# Altium schematic symbol library SFM-110-02-L-D-A-P-TR.SchLib: 1 symbol
Pins are listed as number, name and electrical type; pins without a type are passive.

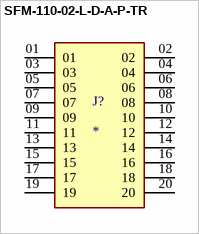
[diagram p0: symbol SFM-110-02-L-D-A-P-TR]

## SFM-110-02-L-D-A-P-TR
designator J?
20 Position Receptacle Connector 0.050 (1.27mm) Surface Mount Gold; MF: Samtec; MP: SFM-110-02-L-D-A-P-TR; Check_prices: https://www.snapeda.com/parts/SFM-110-02-L-D-A-P-TR/Samtec+Inc./view-part/?ref=eda; Availability: In Stock; Price: None; SnapEDA_Link: https://www.snapeda.com/parts/SFM-110-02-L-D-A-P-TR/Samtec+Inc./view-part/?ref=snap; Value: *; Package: None; Purchase-URL: https://pricing.snapeda.com/search/part/SFM-110-02-L-D-A-P-TR/?ref=eda
footprint SAMTEC_SFM-110-02-L-D-A-P-TR
pins: 01, 02, 03, 04, 05, 06, 07, 08, 09, 10, 11, 12, 13, 14, 15, 16, 17, 18, 19, 20